# Altium schematic symbol library IHLP2525CZER2R2M01.SchLib: 1 symbol
Pins are listed as number, name and electrical type; pins without a type are passive.

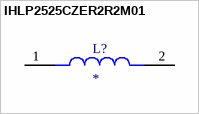
[diagram p0: symbol IHLP2525CZER2R2M01]

## IHLP2525CZER2R2M01
designator L?
2.2ÂµH Shielded Molded Inductor 8A 20mOhm Max Nonstandard; MP: IHLP2525CZER2R2M01; MF: {'manufacturer': u'Vishay Dale'}; Value: *; Availability: Unavailable; Package: None; Price: None
footprint INDM686X647X300N
pins: 1, 2